# Altium schematic symbol library Connector-SH.SchLib: 3 symbols
Pins are listed as number, name and electrical type; pins without a type are passive.

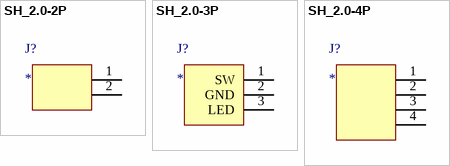
[diagram p0: symbols SH_2.0-2P to SH_2.0-4P]

## SH_2.0-2P
designator J?
连接器 间距1mm; Manufacturer_Name: *; Manufacturer_Part_Number: *
pins: 1, 2

## SH_2.0-3P
designator J?
连接器 间距1mm; Manufacturer_Name: *; Manufacturer_Part_Number: *
pins: 1 SW, 2 GND, 3 LED

## SH_2.0-4P
designator J?
连接器 间距1mm; Manufacturer_Name: HCTL(华灿天禄); Manufacturer_Part_Number: HC-1.0-4PLT; Manufacturer_Name_1: JST; Manufacturer_Part_Number_1: BM04B-SRSS-TB(LF)(SN); LCSC: C2845372
footprint SH-1.0-4P-SMD
pins: 1, 2, 3, 4